# EAGLE library part SPADE (library J-Barrier)
CINCH,8-140
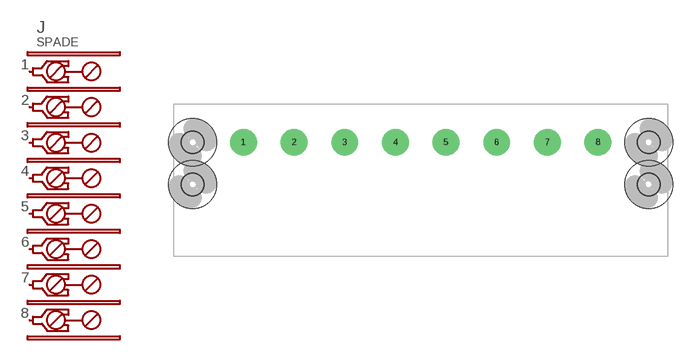
[diagram p0: symbol with the pads of 8-140; footprint 8-140]

Designator prefix J

## SPADE  [8-140]
1  1  pas
2  2  pas
3  3  pas
4  4  pas
5  5  pas
6  6  pas
7  7  pas
8  8  pas

## Footprint 8-140 (pad centres in mm)
CINCH,8-140
drill 4.039: 1 0,0; 2 9.525,0; 3 19.05,0; 4 28.575,0; 5 38.1,0; 6 47.625,0; 7 57.15,0; 8 66.675,0
hole 4.1 at -9.525,0
hole 4.1 at -9.525,-7.925
hole 4.1 at 76.2,0
hole 4.1 at 76.2,-7.925